# EAGLE library part STM8S003F3P6 (library pixel_masterlib)
IC MCU 8BIT 8K FLASH 20TSSOP
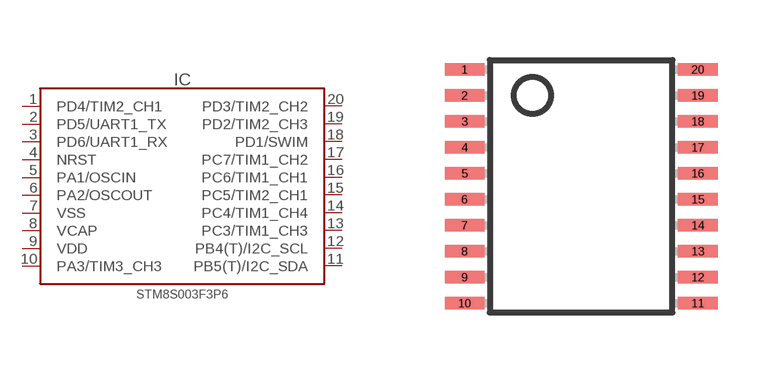
[diagram p0: symbol with the pads of TSSOP20; footprint TSSOP20]

Designator prefix IC

## STM8S003F3P6 (COMPEL: http://www.compel.ru/infosheet/ST/STM8S003F3P6/; DIGIKEY#: STM8S003F3P6TR-ND; MANF: STMicroelectronics; MANF#: STM8S003F3P6TR)  [TSSOP20]
1  PD4/TIM2_CH1
2  PD5/UART1_TX
3  PD6/UART1_RX
4  NRST
5  PA1/OSCIN
6  PA2/OSCOUT
7  VSS
8  VCAP
9  VDD
10  PA3/TIM3_CH3
11  PB5(T)/I2C_SDA
12  PB4(T)/I2C_SCL
13  PC3/TIM1_CH3
14  PC4/TIM1_CH4
15  PC5/TIM2_CH1
16  PC6/TIM1_CH1
17  PC7/TIM1_CH2
18  PD1/SWIM
19  PD2/TIM2_CH3
20  PD3/TIM2_CH2

## Footprint TSSOP20 (pad centres in mm)
Thin Shrink Small Outline Plastic 20 MAX3223-MAX3243.pdf
smd 0.991 x 0.305: 1 -2.918,2.925; 2 -2.918,2.275; 3 -2.918,1.625; 4 -2.918,0.975; 5 -2.918,0.325; 6 -2.918,-0.325; 7 -2.918,-0.975; 8 -2.918,-1.625; 9 -2.918,-2.275; 10 -2.918,-2.925; 11 2.918,-2.925; 12 2.918,-2.275; 13 2.918,-1.625; 14 2.918,-0.975; 15 2.918,-0.325; 16 2.918,0.325; 17 2.918,0.975; 18 2.918,1.625; 19 2.918,2.275; 20 2.918,2.925